# Altium schematic symbol library TLV1117-33IDCYR.SchLib: 1 symbol
Pins are listed as number, name and electrical type; pins without a type are passive.

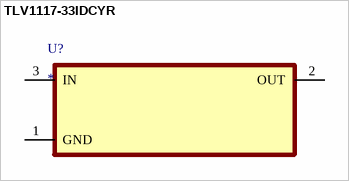
[diagram p0: symbol TLV1117-33IDCYR]

## TLV1117-33IDCYR
designator U?
footprint TLV1117-33IDCYR
pins: 1 GND, 2 OUT, 3 IN